# Altium schematic symbol library digilent.SchLib: 1 symbol
Pins are listed as number, name and electrical type; pins without a type are passive.

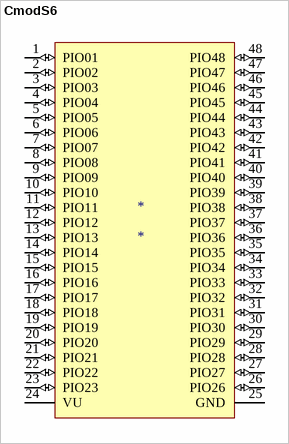
[diagram p0: symbol CmodS6]

## CmodS6
designator *
footprint dip48
pins: 1 PIO01 (io), 2 PIO02 (io), 3 PIO03 (io), 4 PIO04 (io), 5 PIO05 (io), 6 PIO06 (io), 7 PIO07 (io), 8 PIO08 (io), 9 PIO09 (io), 10 PIO10 (io), 11 PIO11 (io), 12 PIO12 (io), 13 PIO13 (io), 14 PIO14 (io), 15 PIO15 (io), 16 PIO16 (io), 17 PIO17 (io), 18 PIO18 (io), 19 PIO19 (io), 20 PIO20 (io), 21 PIO21 (io), 22 PIO22 (io), 23 PIO23 (io), 24 VU (power), 25 GND (power), 26 PIO26 (io), 27 PIO27 (io), 28 PIO28 (io), 29 PIO29 (io), 30 PIO30 (io), 31 PIO31 (io), 32 PIO32 (io), 33 PIO33 (io), 34 PIO34 (io), 35 PIO35 (io), 36 PIO36 (io), 37 PIO37 (io), 38 PIO38 (io), 39 PIO39 (io), 40 PIO40 (io), 41 PIO41 (io), 42 PIO42 (io), 43 PIO43 (io), 44 PIO44 (io), 45 PIO45 (io), 46 PIO46 (io), 47 PIO47 (io), 48 PIO48 (io)